# EAGLE library part 87832-08 (library molexmod)
Milli-Grid Header 2.00mm (.079") Pitch
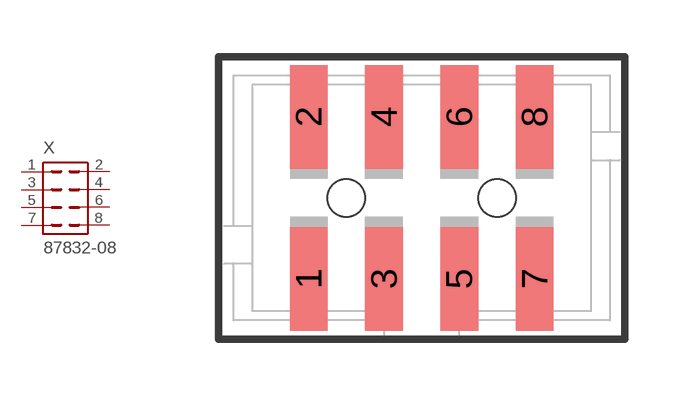
[diagram p61: symbol with the pads of 87832-08; footprint 87832-08]

Designator prefix X

## 87832-08 (MF: MOLEX; OC_FARNELL: unknown; OC_NEWARK: unknown)  [87832-08]
1  1  pas
2  2  pas
3  3  pas
4  4  pas
5  5  pas
6  6  pas
7  7  pas
8  8  pas

## Footprint 87832-08 (pad centres in mm)
Milli-Grid™ Header, Surface Mount, Vertical, Shrouded, Lead-Free, 8 Circuits, 0.76µm Gold (Au) Plating, without Locking Window, with Centre Polarization Slot, PCB Locator, Tube Datasheet <http://www.molex.com/pdm_docs/sd/878320821_sd.pdf>
smd 1 x 2.75: 1 -3,-2.15; 2 -3,2.15; 3 -1,-2.15; 4 -1,2.15; 5 1,-2.15; 6 1,2.15; 7 3,-2.15; 8 3,2.15
hole 1 at -2,0
hole 1 at 2,0